# Altium schematic symbol library 8-pin_HEADER.SchLib: 1 symbol
Pins are listed as number, name and electrical type; pins without a type are passive.

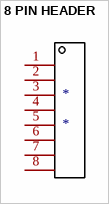
[diagram p0: symbol 8 PIN HEADER]

## 8 PIN HEADER
designator *
PZ254-1-08-Z-8.5
footprint PCBComponent_1
pins: 1, 2, 3, 4, 5, 6, 7, 8